# Altium footprint library LCR.PcbLib: 13 footprints
Each footprint in its own frame and in the unit in brackets; x right, y up, seen from the top. Pads: shape width x height; smd on the part's side, far side on the other; paste and mask are expansions set on the pad; w line width, h text height; cw(c..) or ccw(c..) is an arc to the next point about the centre after c.
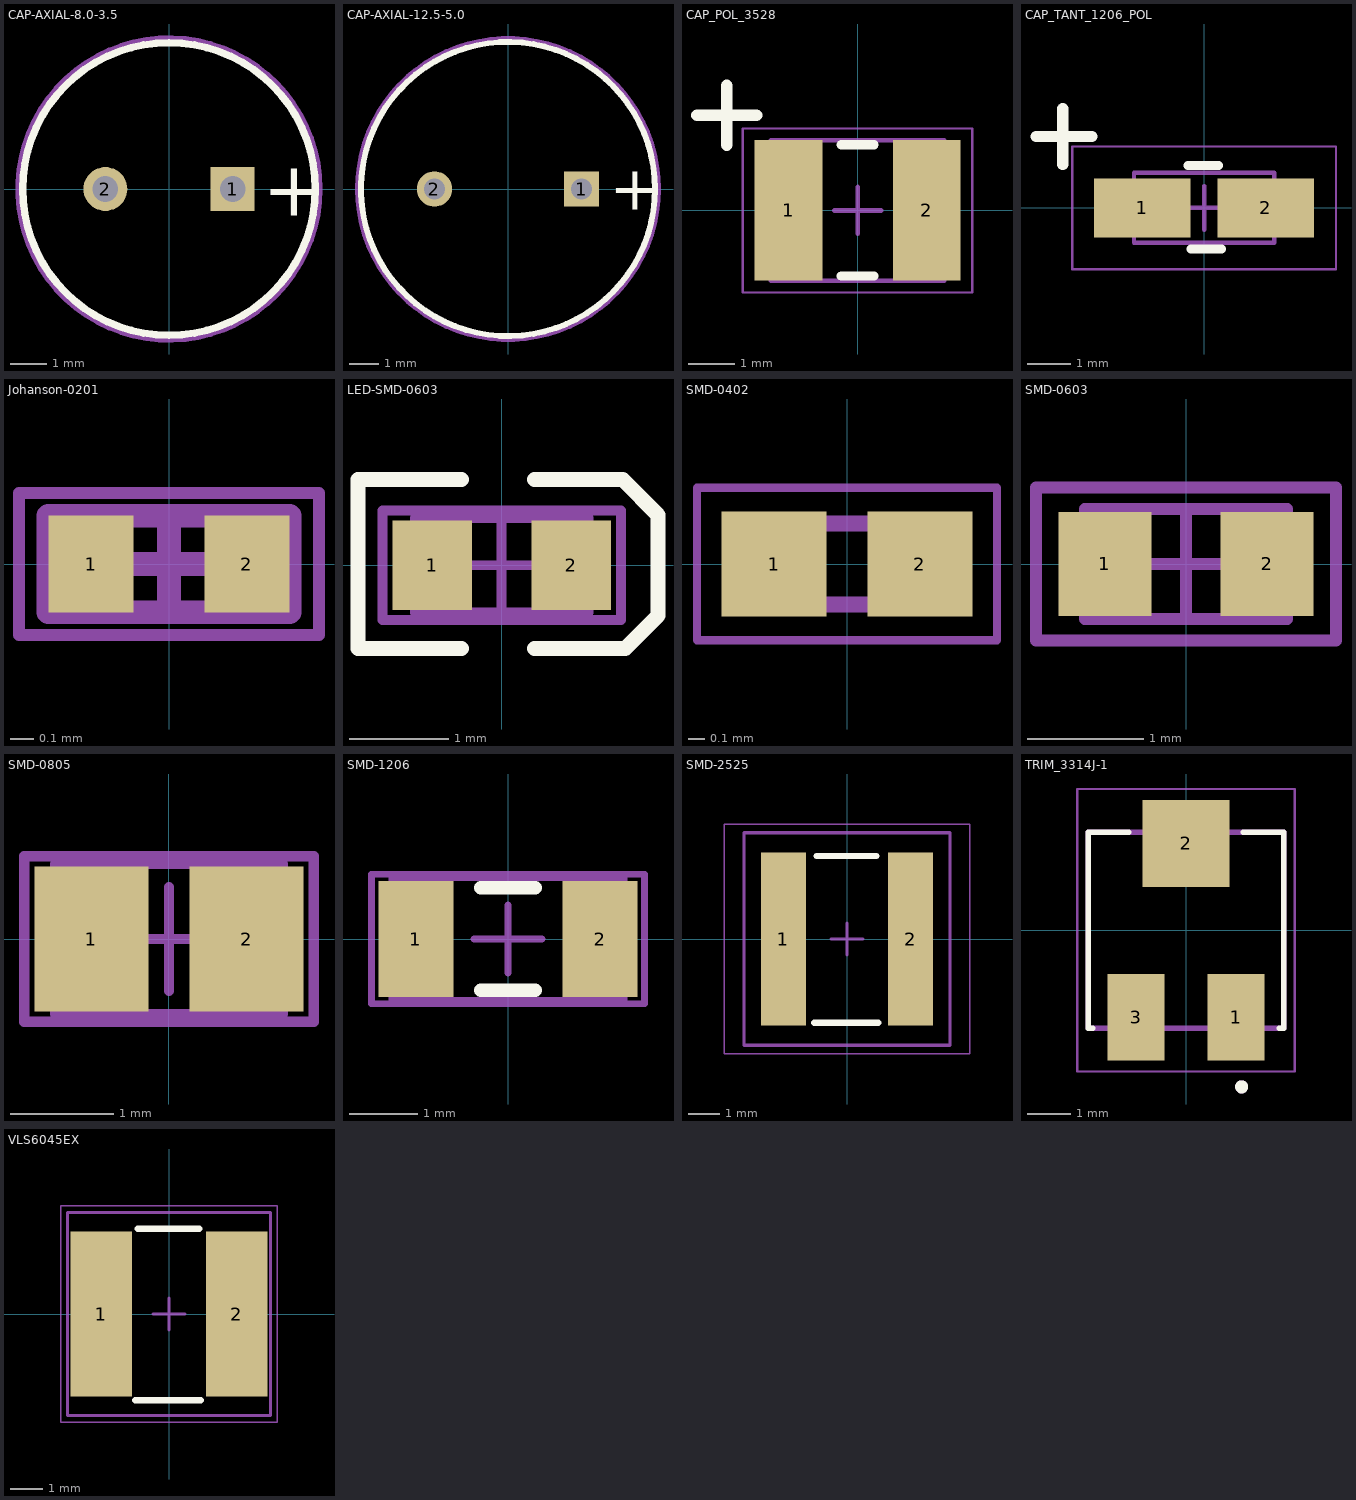
[diagram p0: the footprints below, top view; thin cyan lines are the x and y axes]

## CAP-AXIAL-8.0-3.5 [mm] "Polarized Capacitor (Radial); 2 Leads"
pads (2):
  rect 1.2x1.2 hole 0.7: 1(1.74,0)
  round 1.2 hole 0.7: 2(-1.74,0)
Top Overlay:
  circle w0.2: c0,0 r4
  text "+" at 2.565,-0.737 h1.5
Mechanical 15:
  circle w0.2: c0,0 r4.1

## CAP-AXIAL-12.5-5.0 [mm] "Polarized Capacitor (Radial); 2 Leads"
pads (2):
  rect 1.2x1.2 hole 0.7: 1(2.5,0)
  round 1.2 hole 0.7: 2(-2.5,0)
Top Overlay:
  circle w0.2: c0,0 r5
  text "+" at 3.454,-0.711 h1.5
Mechanical 15:
  circle w0.2: c0,0 r5.1

## CAP_POL_3528 [mm] "Chip Capacitor, 2-Leads, Body 3.50x2.80mm, IPC Medium Density, Imperial 1411"
height 2.1
pads (2):
  rect 1.45x3 smd: 1(-1.475,0) 2(1.475,0)
Top Overlay:
  lines w0.2: -0.35,-1.4 0.35,-1.4 ; -0.35,1.4 0.35,1.4
  lines w0.254: -3.429,2.032 -2.158,2.032 ; -2.794,1.397 -2.794,2.667
Mechanical 13:
  lines w0.1: -1.85,-1.5 1.85,-1.5 1.85,1.5 -1.85,1.5 -1.85,-1.5
Mechanical 15:
  lines w0.05: -2.45,-1.75 2.45,-1.75 2.45,1.75 -2.45,1.75 -2.45,-1.75
  lines w0.1: -0.5,0 0.5,0 ; 0,-0.5 0,0.5
3D body: height 2.1, standoff 0, extent 1.05,-1.5 1.85,1.5
3D body: height 2.1, standoff 0, extent -1.85,-1.5 -1.05,1.5
3D body: height 2.1, standoff 0, extent -1.05,-1.5 1.05,1.5

## CAP_TANT_1206_POL [mm] "Imperial 1206, Metric 3216"
height 2.1
pads (2):
  rect 2.2x1.35 smd: 1(-1.41,0) 2(1.41,0)
Top Overlay:
  lines w0.2: -0.37,0.965 0.33,0.965 ; -0.305,-0.94 0.395,-0.94
  lines w0.254: -3.836,1.626 -2.565,1.626 ; -3.226,0.991 -3.226,2.261
Mechanical 13:
  lines w0.1: -1.6,-0.8 1.6,-0.8 1.6,0.8 -1.6,0.8 -1.6,-0.8
Mechanical 15:
  lines w0.05: -3.01,1.4 -3.01,-1.4 3.01,-1.4 3.01,1.4 ; -3,1.4 3,1.4
  lines w0.1: -0.5,0 0.5,0 ; 0,-0.5 0,0.5
3D body: height 2.1, standoff 0, extent -1.6,-0.8 1.6,0.8

## Johanson-0201 [mm] "Chip Capacitor, 2-Leads, Body 0.82x0.37mm, IPC Medium Density"
height 0.6
pads (2):
  rect 0.36x0.41 smd mask+0.05: 1(-0.33,0) 2(0.33,0)
Mechanical 13:
  lines w0.1: -0.51,-0.205 0.51,-0.205 0.51,0.205 -0.51,0.205 -0.51,-0.205
Mechanical 15:
  lines w0.05: -0.635,-0.3 0.635,-0.3 0.635,-0.112 0.635,0.188 0.635,0.3 -0.635,0.3 -0.635,-0.3
  lines w0.1: -0.205,0 0.205,0 ; 0,-0.205 0,0.205
3D body: height 0.6, standoff 0, extent 0.23,-0.205 0.51,0.205
3D body: height 0.6, standoff 0, extent -0.51,-0.205 -0.23,0.205
3D body: height 0.6, standoff 0, extent -0.23,-0.205 0.23,0.205

## LED-SMD-0603 [mm] "SMD Body 1.6x0.8mm, IPC High Density"
height 1.3
pads (2):
  rect 0.8x0.9 smd: 1(-0.7,0) 2(0.7,0)
Top Overlay:
  lines w0.152: -0.406,-0.838 -1.448,-0.838 -1.448,0.864 -0.406,0.864 ; 0.33,-0.838 1.245,-0.838 1.575,-0.508 1.575,0.508 1.219,0.864 0.33,0.864
Mechanical 13:
  lines w0.1: -0.875,-0.475 -0.875,0.475 0.875,0.475 0.875,-0.475 -0.875,-0.475
Mechanical 15:
  lines w0.1: -0.475,0 0.475,0 ; 0,-0.475 0,0.475 ; -1.2,-0.55 -1.2,0.55 1.2,0.55 1.2,-0.55 -1.2,-0.55
3D body: height 1.3, standoff 0, extent -0.875,-0.475 0.875,0.475

## SMD-0402 [mm] "0402 Imperial"
pads (2):
  rect 0.65x0.65 smd mask+0.05: 1(-0.45,0) 2(0.45,0)
Mechanical 13:
  lines w0.1: -0.5,-0.25 0.5,-0.25 0.5,0.25 -0.5,0.25 -0.5,-0.25
Mechanical 15:
  lines w0.05: -0.925,-0.47 0.925,-0.47 0.925,0.47 -0.925,0.47 -0.925,-0.47
3D body "04023A101JAT2A.stp": height 0.56, standoff 0, extent -0.5,-0.25 0.5,0.25

## SMD-0603 [mm] "SMD Body 1.6x0.8mm, IPC High Density"
height 1.3
pads (2):
  rect 0.8x0.9 smd: 1(-0.7,0) 2(0.7,0)
Mechanical 13:
  lines w0.1: -0.875,-0.475 0.875,-0.475 0.875,0.475 -0.875,0.475 -0.875,-0.475
Mechanical 15:
  lines w0.1: -0.475,0 0.475,0 ; 0,-0.475 0,0.475 ; -1.295,-0.66 1.295,-0.66 1.295,0.66 -1.295,0.66 -1.295,-0.66
3D body: height 1.3, standoff 0, extent -0.875,-0.475 0.875,0.475

## SMD-0805 [mm] "Chip Capacitor, Body 2.0x1.3mm, IPC High Density, 0805 Imperial, 2012 Metric"
height 1.4
pads (2):
  rect 1.1x1.4 smd: 1(-0.75,0) 2(0.75,0)
Mechanical 13:
  lines w0.1: -1.1,-0.725 -1.1,0.725 1.1,0.725 1.1,-0.725 -1.1,-0.725
Mechanical 15:
  lines w0.1: -0.5,0 0.5,0 ; 0,-0.5 0,0.5 ; -1.4,-0.8 -1.4,0.8 1.4,0.8 1.4,-0.8 -1.4,-0.8
3D body: height 1.4, standoff 0, extent -1.1,-0.725 1.1,0.725

## SMD-1206 [mm] "Chip Capacitor, Body 3.2x1.6mm, IPC High Density"
height 1.3
pads (2):
  rect 1.1x1.7 smd: 1(-1.35,0) 2(1.35,0)
Top Overlay:
  lines w0.2: -0.4,-0.75 0.4,-0.75 ; -0.4,0.75 0.4,0.75
Mechanical 13:
  lines w0.1: -1.7,-0.9 -1.7,0.9 1.7,0.9 1.7,-0.9 -1.7,-0.9
Mechanical 15:
  lines w0.1: -0.5,0 0.5,0 ; 0,-0.5 0,0.5 ; -2,-0.95 -2,0.95 2,0.95 2,-0.95 -2,-0.95
3D body: height 1.3, standoff 0, extent -1.7,-0.9 1.7,0.9

## SMD-2525 [mm] "XAL6060-153MEB Inductor"
height 6.1
pads (2):
  rect 1.43x5.5 smd: 1(-2.02,0) 2(2.02,0)
Top Overlay:
  lines w0.2: -1.041,-2.667 0.991,-2.667 ; -0.965,2.642 0.94,2.642
Mechanical 13:
  lines w0.1: -3.28,-3.38 -3.28,3.38 3.28,3.38 3.28,-3.38 -3.28,-3.38
Mechanical 15:
  lines w0.05: -3.9,-3.65 -3.9,3.65 3.9,3.65 3.9,-3.65 -3.9,-3.65
  lines w0.1: -0.5,0 0.5,0 ; 0,-0.5 0,0.5
3D body: height 6.1, standoff 0, extent -2.03,-3.38 2.03,3.38
3D body: height 6.1, standoff 0, extent -3.28,-3.38 -2.03,3.38
3D body: height 6.1, standoff 0, extent 2.03,-3.38 3.28,3.38

## TRIM_3314J-1 [mm] "3314 - 4mm Square Trimpot Trimming Potentiometer"
pads (3):
  rect 1.3x2 smd: 1(1.15,-2) 3(-1.15,-2)
  rect 2x2 smd: 2(0,2)
Top Overlay:
  circle w0.2: c1.28,-3.6 r0.05
  lines w0.127: -2.15,-2.25 -2.25,-2.25 -2.25,2.25 -1.315,2.25 ; 1.315,2.25 2.25,2.25 2.25,-2.25 2.15,-2.25
Mechanical 13:
  circle w0.2: c1.28,-3.6 r0.05
  lines w0.127: -2.25,-2.25 -2.25,2.25 2.25,2.25 2.25,-2.25 -2.25,-2.25
Mechanical 15:
  lines w0.05: -2.5,-3.25 -2.5,3.25 2.5,3.25 2.5,-3.25 -2.5,-3.25

## VLS6045EX [mm] "6.0mm x 6.0mm SMD"
height 4.5
pads (2):
  rect 1.9x5.1 smd mask+0.051: 1(-2.1,0) 2(2.1,0)
Top Overlay:
  lines w0.2: -1.041,-2.667 0.991,-2.667 ; -0.965,2.642 0.94,2.642
Mechanical 13:
  lines w0.1: -3.15,-3.15 3.15,-3.15 3.15,3.15 -3.15,3.15 -3.15,-3.15
Mechanical 15:
  lines w0.05: -3.35,-3.35 -3.35,3.35 3.35,3.35 3.35,-3.35 -3.35,-3.35
  lines w0.1: -0.5,0 0.5,0 ; 0,-0.5 0,0.5
3D body: height 6.1, standoff 0, extent -2.03,-3.15 2.03,3.15
3D body: height 6.1, standoff 0, extent -3.15,-3.15 -2.03,3.15
3D body: height 6.1, standoff 0, extent 2.03,-3.15 3.15,3.15